# Altium schematic symbol library Connectors-usb.SchLib: 4 symbols
Pins are listed as number, name and electrical type; pins without a type are passive.

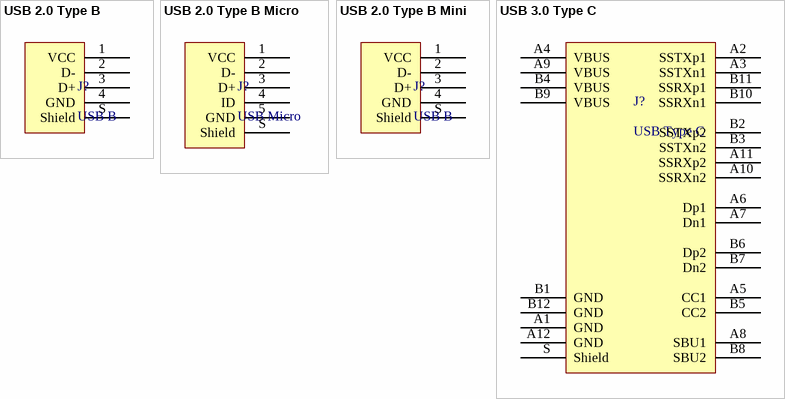
[diagram p0: symbols USB 2.0 Type B to USB 3.0 Type C]

## USB 2.0 Type B
designator J?, comment USB B
footprint FCI USB 61729-0010BLF
footprint FCI USB 61729-1011BLF
footprint Harwin USB M701-370442
pins: 1 VCC, 2 D-, 3 D+, 4 GND, S Shield

## USB 2.0 Type B Micro
designator J?, comment USB Micro
footprint FCI USB 10118193-0001LF (USB 2.0 Type B Micro)
pins: 1 VCC, 2 D-, 3 D+, 4 ID, 5 GND, S Shield

## USB 2.0 Type B Mini
designator J?, comment USB B
footprint FCI USB 10033526-N3212LF (USB 2.0 Type B Mini)
pins: 1 VCC, 2 D-, 3 D+, 4 GND, S Shield

## USB 3.0 Type C
designator J?, comment USB Type C
footprint TE USB-C 2129691-1
pins: A1 GND, A2 SSTXp1, A3 SSTXn1, A4 VBUS, A5 CC1, A6 Dp1, A7 Dn1, A8 SBU1, A9 VBUS, A10 SSRXn2, A11 SSRXp2, A12 GND, B1 GND, B2 SSTXp2, B3 SSTXn2, B4 VBUS, B5 CC2, B6 Dp2, B7 Dn2, B8 SBU2, B9 VBUS, B10 SSRXn1, B11 SSRXp1, B12 GND, S Shield